# Altium schematic symbol library Voltage References.SchLib: 1 symbol
Pins are listed as number, name and electrical type; pins without a type are passive.

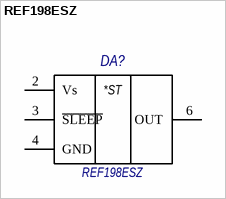
[diagram p0: symbol REF198ESZ]

## REF198ESZ
designator DA?  Type: REF198ESZ  (hidden comment: *)
footprint SO-8
pins: 2 Vs, 3 ~{SLEEP} , 4 GND, 6 OUT
text: *ST